# Altium schematic symbol library Memory.SchLib: 5 symbols
Pins are listed as number, name and electrical type; pins without a type are passive.

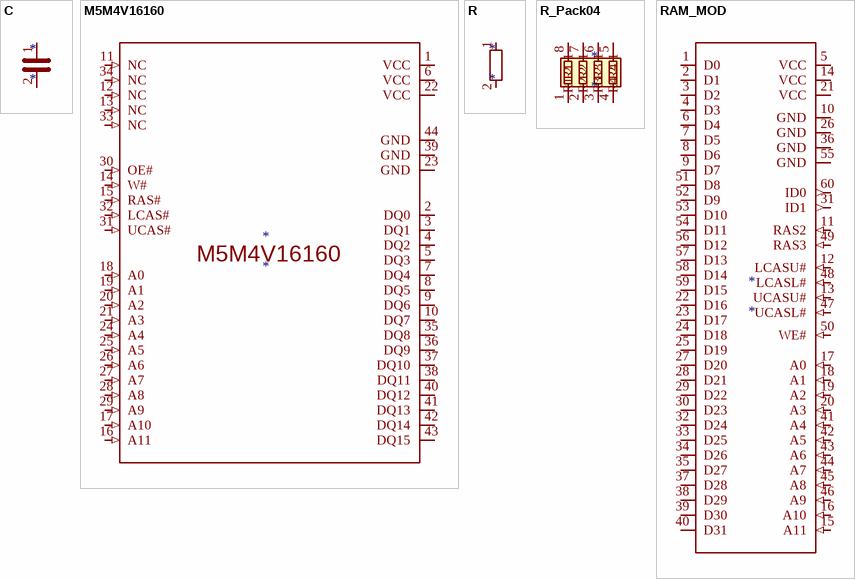
[diagram p0: symbols C to RAM_MOD]

## C
designator *
pins: 1, 2

## M5M4V16160
designator *
pins: 1 VCC (power), 2 DQ0 (io), 3 DQ1 (io), 4 DQ2 (io), 5 DQ3 (io), 6 VCC (power), 7 DQ4 (io), 8 DQ5 (io), 9 DQ6 (io), 10 DQ7 (io), 11 NC (in), 12 NC (in), 13 NC (in), 14 W# (in), 15 RAS# (in), 16 A11 (in), 17 A10 (in), 18 A0 (in), 19 A1 (in), 20 A2 (in), 21 A3 (in), 22 VCC (power), 23 GND (power), 24 A4 (in), 25 A5 (in), 26 A6 (in), 27 A7 (in), 28 A8 (in), 29 A9 (in), 30 OE# (in), 31 UCAS# (in), 32 LCAS# (in), 33 NC (in), 34 NC (in), 35 DQ8 (io), 36 DQ9 (io), 37 DQ10 (io), 38 DQ11 (io), 39 GND (power), 40 DQ12 (io), 41 DQ13 (io), 42 DQ14 (io), 43 DQ15 (io), 44 GND (power)

## R
designator *
pins: 1, 2

## R_Pack04
designator *
pins: 1 R1.1, 2 R2.1, 3 R3.1, 4 R4.1, 5 R4.2, 6 R3.2, 7 R2.2, 8 R1.2

## RAM_MOD
designator *
pins: 1 D0 (io), 2 D1 (io), 3 D2 (io), 4 D3 (io), 5 VCC (power), 6 D4 (io), 7 D5 (io), 8 D6 (io), 9 D7 (io), 10 GND (power), 11 RAS2 (in), 12 LCASU# (in), 13 UCASU# (in), 14 VCC (power), 15 A11 (in), 16 A10 (in), 17 A0 (in), 18 A1 (in), 19 A2 (in), 20 A3 (in), 21 VCC (power), 22 D16 (io), 23 D17 (io), 24 D18 (io), 25 D19 (io), 26 GND (power), 27 D20 (io), 28 D21 (io), 29 D22 (io), 30 D23 (io), 31 ID1 (out), 32 D24 (io), 33 D25 (io), 34 D26 (io), 35 D27 (io), 36 GND (power), 37 D28 (io), 38 D29 (io), 39 D30 (io), 40 D31 (io), 41 A4 (in), 42 A5 (in), 43 A6 (in), 44 A7 (in), 45 A8 (in), 46 A9 (in), 47 UCASL# (in), 48 LCASL# (in), 49 RAS3 (in), 50 WE# (in), 51 D8 (io), 52 D9 (io), 53 D10 (io), 54 D11 (io), 55 GND (power), 56 D12 (io), 57 D13 (io), 58 D14 (io), 59 D15 (io), 60 ID0 (out)